# EAGLE library part BCM847DS (library wb-transistors)
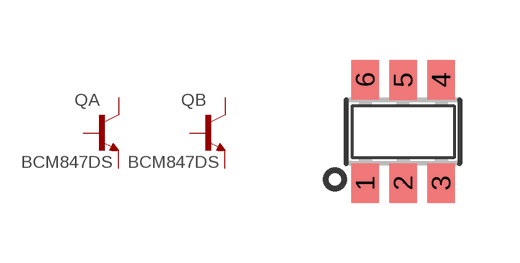
[diagram p1: symbol with the pads of SOT-23-6; footprint SOT-23-6]

Designator prefix Q; gates A=BJT-N B=BJT-N

## BCM847DS  [SOT-23-6]
1  A:E
2  A:B
3  B:C
4  B:E
5  B:B
6  A:C

## Footprint SOT-23-6 (pad centres in mm)
smd 0.69 x 0.99: 1 -0.95,-1.29; 2 0,-1.29; 3 0.95,-1.29; 4 0.95,1.3; 5 0,1.29; 6 -0.95,1.3